# Altium footprint library IND3216x2N.PcbLib: 1 footprints
Each footprint in its own frame and in the unit in brackets; x right, y up, seen from the top. Pads: shape width x height; smd on the part's side, far side on the other; paste and mask are expansions set on the pad; w line width, h text height; cw(c..) or ccw(c..) is an arc to the next point about the centre after c.
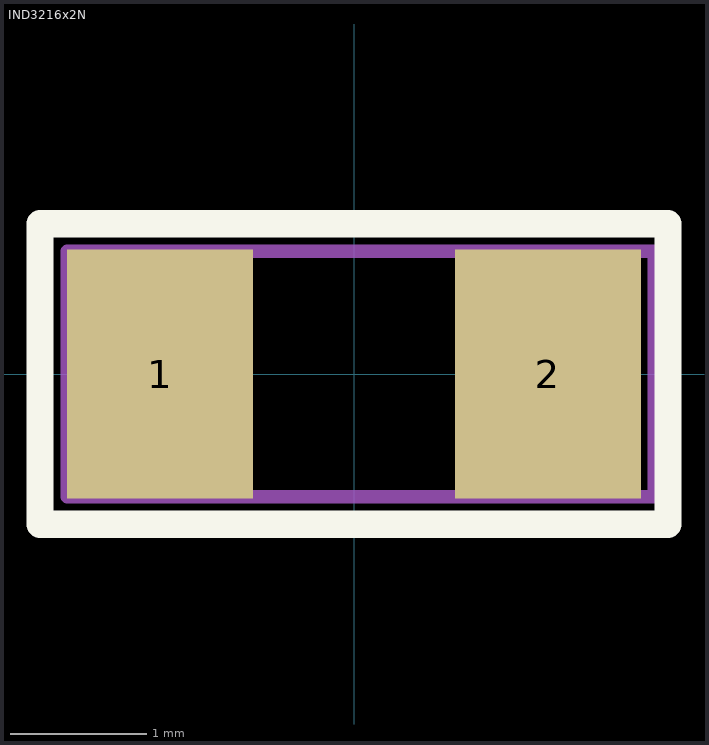
[diagram p0: the footprint, top view; thin cyan lines are the x and y axes]

## IND3216x2N [mm] "1206"
height 2
pads (2):
  rect 1.36x1.82 smd: 1(-1.42,0) 2(1.42,0)
Top Overlay:
  lines w0.2: -2.3,-1.1 2.3,-1.1 2.3,1.1 -2.3,1.1 -2.3,-1.1
Top Assembly:
  lines w0.1: -2.1,-0.9 -2.1,0.9 2.2,0.9 2.2,-0.9 -2.1,-0.9
Top Courtyard:
  lines w0.05: -2.3,-1.1 -2.3,1.1 2.3,1.1 2.3,-1.1 -2.3,-1.1
Top Designator:
  text ".designator" at -3.999,-0.267 h0.8
3D body: height 2, standoff 0, extent 1.05,-0.9 1.75,0.9
3D body: height 2, standoff 0, extent -1.75,-0.9 -1.05,0.9
3D body: height 2, standoff 0, extent -1.05,-0.9 1.05,0.9